# EAGLE library part MAX6369 (library LMA)
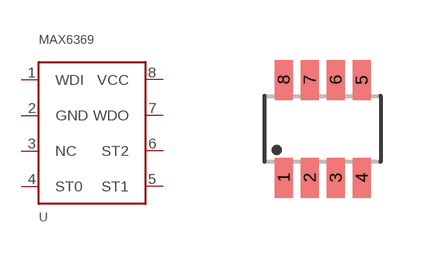
[diagram p2: symbol with the pads of SOT23-8; footprint SOT23-8]

Designator prefix -

## MAX6369  [SOT23-8]
1  WDI
2  GND
3  NC
4  ST0
5  ST1
6  ST2
7  WDO
8  VCC

## Footprint SOT23-8 (pad centres in mm)
smd 0.45 x 1: 1 -0.975,-1.225; 2 -0.325,-1.225; 3 0.325,-1.225; 4 0.975,-1.225; 5 0.975,1.225; 6 0.325,1.225; 7 -0.325,1.225; 8 -0.975,1.225